# Altium schematic symbol library L7905C.SchLib: 1 symbol
Pins are listed as number, name and electrical type; pins without a type are passive.

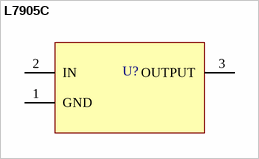
[diagram p0: symbol L7905C]

## L7905C
designator U?
pins: 1 GND, 2 IN, 3 OUTPUT